# Altium schematic symbol library Schematics.SchLib: 1 symbol
Pins are listed as number, name and electrical type; pins without a type are passive.

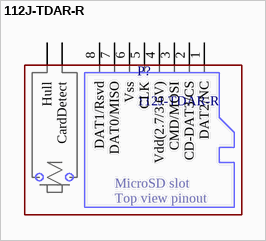
[diagram p0: symbol 112J-TDAR-R]

## 112J-TDAR-R
designator P?
MicroSD card slot w card detection
footprint 112J-TDAR-R (MicroSD slot w card detect)
pins: 1 DAT2/NC, 2 CD-DAT3/CS, 3 CMD/MOSI, 4 Vdd(2.7/3.6V), 5 CLK, 6 Vss, 7 DAT0/MISO, 8 DAT1/Rsvd, CardDetect, Hull
text: MicroSD slot; Top view pinout